# Altium integrated library Analog Devices Data Converters Digital-to-Analog Converters.IntLib: 2231 symbols (part 82 of 181)
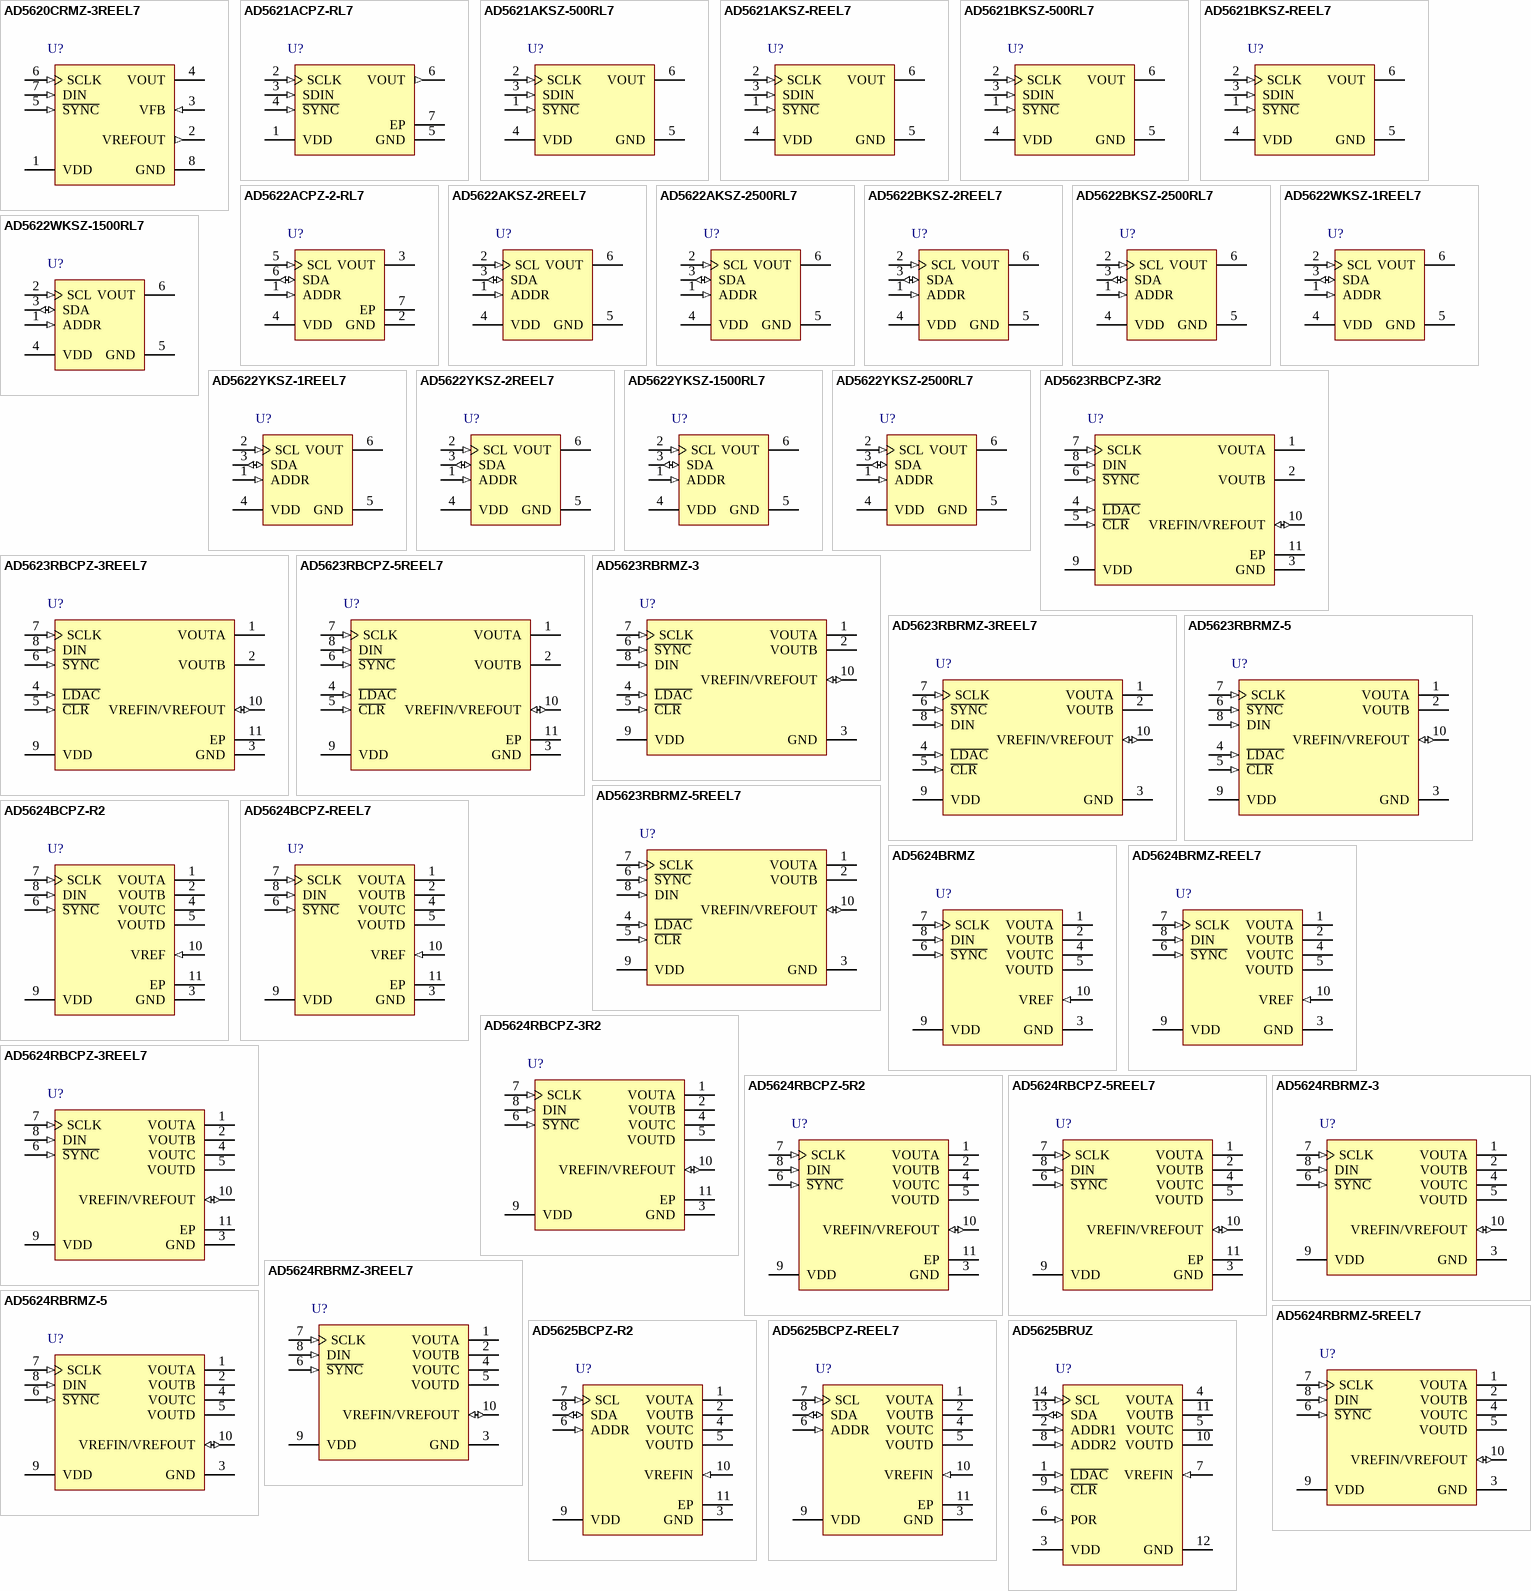
[diagram p195: symbols AD5620CRMZ-3REEL7 to AD5625BRUZ]

## AD5624RBCPZ-3R2
designator U?
Quad 12-Bit nanoDAC with 5 ppm/degC On-Chip Reference, -40 to +105 degC, CP-10-9, Pb-Free, Reel; Generic Part Number: AD5624R; Manufacturer: Analog Devices; PartNumber: AD5624RBCPZ-3R2; # DAC Outputs: 4; Max V+: 5.5V; Op Pwr Diss: 6.6mW; Resolution (Bits): 12; Settling Time: 3µs; Single Supply: Yes; DatasheetVersion: Rev.B; PackageVersion: 02-27-2012-B; PackageReference: CP-10-9; PackageDescription: 10-Lead Lead Frame Chip Scale Package [LFCSP_WD] 3 x 3 mm Body, Very Very Thin, Dual Lead; Supplier 1: Digi-Key; Supplier Part Number 1: AD5624RBCPZ-3R2-ND; Supplier 2: Newark; Supplier Part Number 2: 28M4003; Supplier 3: Mouser; Supplier Part Number 3: 584-AD5624RBCPZ-3R2; Packing: Reel; RoHS: Y; Mounting Technology: Surface Mount; ComponentLink1Description: Manufacturer URL; ComponentLink1URL: http://www.analog.com/en/index.html; ComponentLink2Description: Datasheet; ComponentLink2URL: http://www.analog.com/static/imported-files/data_sheets/AD5624R_5644R_5664R.pdf; ComponentLink3Description: Package Specification; ComponentLink3URL: http://www.analog.com/static/imported-files/packages/CP_10_9.pdf; ComponentLink4Description: Product URL; ComponentLink4URL: http://www.analog.com/en/digital-to-analog-converters/da-converters/ad5624r/products/product.html
footprint CP-10-9_N (SON, 10-Leads, Body 3x3mm, Pitch 0.5mm, Thermal Pad 2.35x1.6mm, IPC Medium Density)
footprint CP-10-9_L (SON, 10-Leads, Body 3x3mm, Pitch 0.5mm, Thermal Pad 2.35x1.6mm, IPC High Density)
footprint CP-10-9_M (SON, 10-Leads, Body 3x3mm, Pitch 0.5mm, Thermal Pad 2.35x1.6mm, IPC Low Density)
pins: 1 VOUTA (hiz) "Analog Output Voltage from DAC A. The output amplifier has rail-to-rail operation.", 2 VOUTB (hiz) "Analog Output Voltage from DAC B. The output amplifier has rail-to-rail operation.", 3 GND (power) "Ground Reference Point for all Circuitry on the Part.", 4 VOUTC (hiz) "Analog Output Voltage from DAC C. The output amplifier has rail-to-rail operation.", 5 VOUTD (hiz) "Analog Output Voltage from DAC D. The output amplifier has rail-to-rail operation.", 6 ~{SYNC} (in) "Active Low Control Input. This is the frame synchronization signal for the input data. When S\Y\N\C\ goes low, it powers on the SCLK and DIN buffers and enables the input shift register. Data is transferred in on the falling (See Datasheet)", 7 SCLK (in) "Serial Clock Input. Data is clocked into the input shift register on the falling edge of the serial clock input. Data can be transferred at rates up to 50 MHz.", 8 DIN (in) "Serial Data Input. This device has a 24-bit shift register. Data is clocked into the register on the falling edge of the serial clock input.", 9 VDD (power) "Power Supply Input. These parts can be operated from 2.7 V to 5.5 V, and the supply should be decoupled with a 10 µF capacitor in parallel with a 0.1 uF capacitor to GND.", 10 VREFIN/VREFOUT (io) "The AD5624R have a common pin for reference input and reference output. When using the internal reference, this is the reference output pin. When using an external reference, this is the reference input pin. The default for (See Datasheet)", 11 EP (power) "Exposed  pad"

## AD5624RBCPZ-3REEL7
designator U?
Quad 12-Bit nanoDAC with 5 ppm/degC On-Chip Reference, -40 to +105 degC, CP-10-9, Pb-Free, Reel; Generic Part Number: AD5624R; Manufacturer: Analog Devices; PartNumber: AD5624RBCPZ-3REEL7; # DAC Outputs: 4; Max V+: 5.5V; Op Pwr Diss: 6.6mW; Resolution (Bits): 12; Settling Time: 3µs; Single Supply: Yes; DatasheetVersion: Rev.B; PackageVersion: 02-27-2012-B; PackageReference: CP-10-9; PackageDescription: 10-Lead Lead Frame Chip Scale Package [LFCSP_WD] 3 x 3 mm Body, Very Very Thin, Dual Lead; Supplier 1: Digi-Key; Supplier Part Number 1: AD5624RBCPZ-3REEL7TR-ND; Supplier 2: Digi-Key; Supplier Part Number 2: AD5624RBCPZ-3REEL7CT-ND; Supplier 3: Digi-Key; Supplier Part Number 3: AD5624RBCPZ-3REEL7DKR-ND; Supplier 4: Newark; Supplier Part Number 4: 12M8587; Supplier 5: Mouser; Supplier Part Number 5: 584-AD5624RBCPZ3R7; Packing: Reel; RoHS: Y; Mounting Technology: Surface Mount; ComponentLink1Description: Manufacturer URL; ComponentLink1URL: http://www.analog.com/en/index.html; ComponentLink2Description: Datasheet; ComponentLink2URL: http://www.analog.com/static/imported-files/data_sheets/AD5624R_5644R_5664R.pdf; ComponentLink3Description: Package Specification; ComponentLink3URL: http://www.analog.com/static/imported-files/packages/CP_10_9.pdf; ComponentLink4Description: Product URL; ComponentLink4URL: http://www.analog.com/en/digital-to-analog-converters/da-converters/ad5624r/products/product.html
footprint CP-10-9_N (SON, 10-Leads, Body 3x3mm, Pitch 0.5mm, Thermal Pad 2.35x1.6mm, IPC Medium Density)
footprint CP-10-9_L (SON, 10-Leads, Body 3x3mm, Pitch 0.5mm, Thermal Pad 2.35x1.6mm, IPC High Density)
footprint CP-10-9_M (SON, 10-Leads, Body 3x3mm, Pitch 0.5mm, Thermal Pad 2.35x1.6mm, IPC Low Density)
pins: 1 VOUTA (hiz) "Analog Output Voltage from DAC A. The output amplifier has rail-to-rail operation.", 2 VOUTB (hiz) "Analog Output Voltage from DAC B. The output amplifier has rail-to-rail operation.", 3 GND (power) "Ground Reference Point for all Circuitry on the Part.", 4 VOUTC (hiz) "Analog Output Voltage from DAC C. The output amplifier has rail-to-rail operation.", 5 VOUTD (hiz) "Analog Output Voltage from DAC D. The output amplifier has rail-to-rail operation.", 6 ~{SYNC} (in) "Active Low Control Input. This is the frame synchronization signal for the input data. When S\Y\N\C\ goes low, it powers on the SCLK and DIN buffers and enables the input shift register. Data is transferred in on the falling (See Datasheet)", 7 SCLK (in) "Serial Clock Input. Data is clocked into the input shift register on the falling edge of the serial clock input. Data can be transferred at rates up to 50 MHz.", 8 DIN (in) "Serial Data Input. This device has a 24-bit shift register. Data is clocked into the register on the falling edge of the serial clock input.", 9 VDD (power) "Power Supply Input. These parts can be operated from 2.7 V to 5.5 V, and the supply should be decoupled with a 10 µF capacitor in parallel with a 0.1 uF capacitor to GND.", 10 VREFIN/VREFOUT (io) "The AD5624R have a common pin for reference input and reference output. When using the internal reference, this is the reference output pin. When using an external reference, this is the reference input pin. The default for (See Datasheet)", 11 EP (power) "Exposed  pad"

## AD5624RBCPZ-5R2
designator U?
Quad 12-Bit nanoDAC with 5 ppm/degC On-Chip Reference, -40 to +105 degC, CP-10-9, Pb-Free, Reel; Generic Part Number: AD5624R; Manufacturer: Analog Devices; PartNumber: AD5624RBCPZ-5R2; # DAC Outputs: 4; Max V+: 5.5V; Op Pwr Diss: 6.6mW; Resolution (Bits): 12; Settling Time: 3µs; Single Supply: Yes; DatasheetVersion: Rev.B; PackageVersion: 02-27-2012-B; PackageReference: CP-10-9; PackageDescription: 10-Lead Lead Frame Chip Scale Package [LFCSP_WD] 3 x 3 mm Body, Very Very Thin, Dual Lead; Supplier 1: Digi-Key; Supplier Part Number 1: AD5624RBCPZ-5R2TR-ND; Supplier 2: Digi-Key; Supplier Part Number 2: AD5624RBCPZ-5R2CT-ND; Supplier 3: Digi-Key; Supplier Part Number 3: AD5624RBCPZ-5R2DKR-ND; Supplier 4: Newark; Supplier Part Number 4: 51R0728; Supplier 5: Mouser; Supplier Part Number 5: 584-AD5624RBCPZ-5R2; Packing: Reel; RoHS: Y; Mounting Technology: Surface Mount; ComponentLink1Description: Manufacturer URL; ComponentLink1URL: http://www.analog.com/en/index.html; ComponentLink2Description: Datasheet; ComponentLink2URL: http://www.analog.com/static/imported-files/data_sheets/AD5624R_5644R_5664R.pdf; ComponentLink3Description: Package Specification; ComponentLink3URL: http://www.analog.com/static/imported-files/packages/CP_10_9.pdf; ComponentLink4Description: Product URL; ComponentLink4URL: http://www.analog.com/en/digital-to-analog-converters/da-converters/ad5624r/products/product.html
footprint CP-10-9_N (SON, 10-Leads, Body 3x3mm, Pitch 0.5mm, Thermal Pad 2.35x1.6mm, IPC Medium Density)
footprint CP-10-9_L (SON, 10-Leads, Body 3x3mm, Pitch 0.5mm, Thermal Pad 2.35x1.6mm, IPC High Density)
footprint CP-10-9_M (SON, 10-Leads, Body 3x3mm, Pitch 0.5mm, Thermal Pad 2.35x1.6mm, IPC Low Density)
pins: 1 VOUTA (hiz) "Analog Output Voltage from DAC A. The output amplifier has rail-to-rail operation.", 2 VOUTB (hiz) "Analog Output Voltage from DAC B. The output amplifier has rail-to-rail operation.", 3 GND (power) "Ground Reference Point for all Circuitry on the Part.", 4 VOUTC (hiz) "Analog Output Voltage from DAC C. The output amplifier has rail-to-rail operation.", 5 VOUTD (hiz) "Analog Output Voltage from DAC D. The output amplifier has rail-to-rail operation.", 6 ~{SYNC} (in) "Active Low Control Input. This is the frame synchronization signal for the input data. When S\Y\N\C\ goes low, it powers on the SCLK and DIN buffers and enables the input shift register. Data is transferred in on the falling (See Datasheet)", 7 SCLK (in) "Serial Clock Input. Data is clocked into the input shift register on the falling edge of the serial clock input. Data can be transferred at rates up to 50 MHz.", 8 DIN (in) "Serial Data Input. This device has a 24-bit shift register. Data is clocked into the register on the falling edge of the serial clock input.", 9 VDD (power) "Power Supply Input. These parts can be operated from 2.7 V to 5.5 V, and the supply should be decoupled with a 10 µF capacitor in parallel with a 0.1 uF capacitor to GND.", 10 VREFIN/VREFOUT (io) "The AD5624R have a common pin for reference input and reference output. When using the internal reference, this is the reference output pin. When using an external reference, this is the reference input pin. The default for (See Datasheet)", 11 EP (power) "Exposed  pad"

## AD5624RBCPZ-5REEL7
designator U?
Quad 12-Bit nanoDAC with 5 ppm/degC On-Chip Reference, -40 to +105 degC, CP-10-9, Pb-Free, Reel; Generic Part Number: AD5624R; Manufacturer: Analog Devices; PartNumber: AD5624RBCPZ-5REEL7; # DAC Outputs: 4; Max V+: 5.5V; Op Pwr Diss: 6.6mW; Resolution (Bits): 12; Settling Time: 3µs; Single Supply: Yes; DatasheetVersion: Rev.B; PackageVersion: 02-27-2012-B; PackageReference: CP-10-9; PackageDescription: 10-Lead Lead Frame Chip Scale Package [LFCSP_WD] 3 x 3 mm Body, Very Very Thin, Dual Lead; Supplier 1: Digi-Key; Supplier Part Number 1: AD5624RBCPZ-5REEL7TR-ND; Supplier 2: Digi-Key; Supplier Part Number 2: AD5624RBCPZ-5REEL7CT-ND; Supplier 3: Digi-Key; Supplier Part Number 3: AD5624RBCPZ-5REEL7DKR-ND; Supplier 4: Newark; Supplier Part Number 4: 89M5007; Supplier 5: Mouser; Supplier Part Number 5: 584-AD5624RBCPZ5R7; Packing: Reel; RoHS: Y; Mounting Technology: Surface Mount; ComponentLink1Description: Manufacturer URL; ComponentLink1URL: http://www.analog.com/en/index.html; ComponentLink2Description: Datasheet; ComponentLink2URL: http://www.analog.com/static/imported-files/data_sheets/AD5624R_5644R_5664R.pdf; ComponentLink3Description: Package Specification; ComponentLink3URL: http://www.analog.com/static/imported-files/packages/CP_10_9.pdf; ComponentLink4Description: Product URL; ComponentLink4URL: http://www.analog.com/en/digital-to-analog-converters/da-converters/ad5624r/products/product.html
footprint CP-10-9_N (SON, 10-Leads, Body 3x3mm, Pitch 0.5mm, Thermal Pad 2.35x1.6mm, IPC Medium Density)
footprint CP-10-9_L (SON, 10-Leads, Body 3x3mm, Pitch 0.5mm, Thermal Pad 2.35x1.6mm, IPC High Density)
footprint CP-10-9_M (SON, 10-Leads, Body 3x3mm, Pitch 0.5mm, Thermal Pad 2.35x1.6mm, IPC Low Density)
pins: 1 VOUTA (hiz) "Analog Output Voltage from DAC A. The output amplifier has rail-to-rail operation.", 2 VOUTB (hiz) "Analog Output Voltage from DAC B. The output amplifier has rail-to-rail operation.", 3 GND (power) "Ground Reference Point for all Circuitry on the Part.", 4 VOUTC (hiz) "Analog Output Voltage from DAC C. The output amplifier has rail-to-rail operation.", 5 VOUTD (hiz) "Analog Output Voltage from DAC D. The output amplifier has rail-to-rail operation.", 6 ~{SYNC} (in) "Active Low Control Input. This is the frame synchronization signal for the input data. When S\Y\N\C\ goes low, it powers on the SCLK and DIN buffers and enables the input shift register. Data is transferred in on the falling (See Datasheet)", 7 SCLK (in) "Serial Clock Input. Data is clocked into the input shift register on the falling edge of the serial clock input. Data can be transferred at rates up to 50 MHz.", 8 DIN (in) "Serial Data Input. This device has a 24-bit shift register. Data is clocked into the register on the falling edge of the serial clock input.", 9 VDD (power) "Power Supply Input. These parts can be operated from 2.7 V to 5.5 V, and the supply should be decoupled with a 10 µF capacitor in parallel with a 0.1 uF capacitor to GND.", 10 VREFIN/VREFOUT (io) "The AD5624R have a common pin for reference input and reference output. When using the internal reference, this is the reference output pin. When using an external reference, this is the reference input pin. The default for (See Datasheet)", 11 EP (power) "Exposed  pad"

## AD5624RBRMZ-3
designator U?
Quad 12-Bit nanoDAC with 5 ppm/degC On-Chip Reference, -40 to +105 degC, RM-10, Pb-Free, Tube; Generic Part Number: AD5624R; Manufacturer: Analog Devices; PartNumber: AD5624RBRMZ-3; # DAC Outputs: 4; Max V+: 5.5V; Op Pwr Diss: 6.6mW; Resolution (Bits): 12; Settling Time: 3µs; Single Supply: Yes; DatasheetVersion: Rev.B; PackageVersion: May-2005; PackageReference: RM-10; PackageDescription: 10-Lead Mini Small Outline Package [MSOP]; Supplier 1: Digi-Key; Supplier Part Number 1: AD5624RBRMZ-3-ND; Supplier 2: Farnell; Supplier Part Number 2: 1274270; Supplier 3: Newark; Supplier Part Number 3: 19M0825; Supplier 4: Mouser; Supplier Part Number 4: 584-AD5624RBRMZ-3; Packing: Tube; RoHS: Y; Mounting Technology: Surface Mount; ComponentLink1Description: Manufacturer URL; ComponentLink1URL: http://www.analog.com/en/index.html; ComponentLink2Description: Datasheet; ComponentLink2URL: http://www.analog.com/static/imported-files/data_sheets/AD5624R_5644R_5664R.pdf; ComponentLink3Description: Package Specification; ComponentLink3URL: http://www.analog.com/static/imported-files/packages/PKG_PDF/MSOP%28RM%29/RM_10.pdf; ComponentLink4Description: Product URL; ComponentLink4URL: http://www.analog.com/en/digital-to-analog-converters/da-converters/ad5624r/products/product.html
footprint RM-10_N (TSSOP, 10-Leads, Body 3x3mm, Pitch 0.5mm, IPC Medium Density)
footprint RM-10_L (TSSOP, 10-Leads, Body 3x3mm, Pitch 0.5mm, IPC High Density)
footprint RM-10_M (TSSOP, 10-Leads, Body 3x3mm, Pitch 0.5mm, IPC Low Density)
pins: 1 VOUTA (hiz) "Analog Output Voltage from DAC A. The output amplifier has rail-to-rail operation.", 2 VOUTB (hiz) "Analog Output Voltage from DAC B. The output amplifier has rail-to-rail operation.", 3 GND (power) "Ground Reference Point for all Circuitry on the Part.", 4 VOUTC (hiz) "Analog Output Voltage from DAC C. The output amplifier has rail-to-rail operation.", 5 VOUTD (hiz) "Analog Output Voltage from DAC D. The output amplifier has rail-to-rail operation.", 6 ~{SYNC} (in) "Active Low Control Input. This is the frame synchronization signal for the input data. When S\Y\N\C\ goes low, it powers on the SCLK and DIN buffers and enables the input shift register. Data is transferred in on the falling (See Datasheet)", 7 SCLK (in) "Serial Clock Input. Data is clocked into the input shift register on the falling edge of the serial clock input. Data can be transferred at rates up to 50 MHz.", 8 DIN (in) "Serial Data Input. This device has a 24-bit shift register. Data is clocked into the register on the falling edge of the serial clock input.", 9 VDD (power) "Power Supply Input. These parts can be operated from 2.7 V to 5.5 V, and the supply should be decoupled with a 10 uF capacitor in parallel with a 0.1 uF capacitor to GND.", 10 VREFIN/VREFOUT (io) "The AD5624R have a common pin for reference input and reference output. When using the internal reference, this is the reference output pin. When using an external reference, this is the reference input pin. The default for (See Datasheet)"

## AD5624RBRMZ-3REEL7
designator U?
Quad 12-Bit nanoDAC with 5 ppm/degC On-Chip Reference, -40 to +105 degC, RM-10, Pb-Free, Reel; Generic Part Number: AD5624R; Manufacturer: Analog Devices; PartNumber: AD5624RBRMZ-3REEL7; # DAC Outputs: 4; Max V+: 5.5V; Op Pwr Diss: 6.6mW; Resolution (Bits): 12; Settling Time: 3µs; Single Supply: Yes; DatasheetVersion: Rev.B; PackageVersion: May-2005; PackageReference: RM-10; PackageDescription: 10-Lead Mini Small Outline Package [MSOP]; Supplier 1: Digi-Key; Supplier Part Number 1: AD5624RBRMZ-3REEL7-ND; Supplier 2: Newark; Supplier Part Number 2: 12M8589; Supplier 3: Mouser; Supplier Part Number 3: 584-AD5624RBRMZ3R7; Packing: Reel; RoHS: Y; Mounting Technology: Surface Mount; ComponentLink1Description: Manufacturer URL; ComponentLink1URL: http://www.analog.com/en/index.html; ComponentLink2Description: Datasheet; ComponentLink2URL: http://www.analog.com/static/imported-files/data_sheets/AD5624R_5644R_5664R.pdf; ComponentLink3Description: Package Specification; ComponentLink3URL: http://www.analog.com/static/imported-files/packages/PKG_PDF/MSOP%28RM%29/RM_10.pdf; ComponentLink4Description: Product URL; ComponentLink4URL: http://www.analog.com/en/digital-to-analog-converters/da-converters/ad5624r/products/product.html
footprint RM-10_N (TSSOP, 10-Leads, Body 3x3mm, Pitch 0.5mm, IPC Medium Density)
footprint RM-10_L (TSSOP, 10-Leads, Body 3x3mm, Pitch 0.5mm, IPC High Density)
footprint RM-10_M (TSSOP, 10-Leads, Body 3x3mm, Pitch 0.5mm, IPC Low Density)
pins: 1 VOUTA (hiz) "Analog Output Voltage from DAC A. The output amplifier has rail-to-rail operation.", 2 VOUTB (hiz) "Analog Output Voltage from DAC B. The output amplifier has rail-to-rail operation.", 3 GND (power) "Ground Reference Point for all Circuitry on the Part.", 4 VOUTC (hiz) "Analog Output Voltage from DAC C. The output amplifier has rail-to-rail operation.", 5 VOUTD (hiz) "Analog Output Voltage from DAC D. The output amplifier has rail-to-rail operation.", 6 ~{SYNC} (in) "Active Low Control Input. This is the frame synchronization signal for the input data. When S\Y\N\C\ goes low, it powers on the SCLK and DIN buffers and enables the input shift register. Data is transferred in on the falling (See Datasheet)", 7 SCLK (in) "Serial Clock Input. Data is clocked into the input shift register on the falling edge of the serial clock input. Data can be transferred at rates up to 50 MHz.", 8 DIN (in) "Serial Data Input. This device has a 24-bit shift register. Data is clocked into the register on the falling edge of the serial clock input.", 9 VDD (power) "Power Supply Input. These parts can be operated from 2.7 V to 5.5 V, and the supply should be decoupled with a 10 uF capacitor in parallel with a 0.1 uF capacitor to GND.", 10 VREFIN/VREFOUT (io) "The AD5624R have a common pin for reference input and reference output. When using the internal reference, this is the reference output pin. When using an external reference, this is the reference input pin. The default for (See Datasheet)"

## AD5624RBRMZ-5
designator U?
Quad 12-Bit nanoDAC with 5 ppm/degC On-Chip Reference, -40 to +105 degC, RM-10, Pb-Free, Tube; Generic Part Number: AD5624R; Manufacturer: Analog Devices; PartNumber: AD5624RBRMZ-5; # DAC Outputs: 4; Max V+: 5.5V; Op Pwr Diss: 6.6mW; Resolution (Bits): 12; Settling Time: 3µs; Single Supply: Yes; DatasheetVersion: Rev.B; PackageVersion: May-2005; PackageReference: RM-10; PackageDescription: 10-Lead Mini Small Outline Package [MSOP]; Supplier 1: Digi-Key; Supplier Part Number 1: AD5624RBRMZ-5-ND; Supplier 2: Farnell; Supplier Part Number 2: 1274269; Supplier 3: Newark; Supplier Part Number 3: 31M4136; Supplier 4: Newark; Supplier Part Number 4: 19M0826; Supplier 5: Mouser; Supplier Part Number 5: 584-AD5624RBRMZ-5; Packing: Tube; RoHS: Y; Mounting Technology: Surface Mount; ComponentLink1Description: Manufacturer URL; ComponentLink1URL: http://www.analog.com/en/index.html; ComponentLink2Description: Datasheet; ComponentLink2URL: http://www.analog.com/static/imported-files/data_sheets/AD5624R_5644R_5664R.pdf; ComponentLink3Description: Package Specification; ComponentLink3URL: http://www.analog.com/static/imported-files/packages/PKG_PDF/MSOP%28RM%29/RM_10.pdf; ComponentLink4Description: Product URL; ComponentLink4URL: http://www.analog.com/en/digital-to-analog-converters/da-converters/ad5624r/products/product.html
footprint RM-10_N (TSSOP, 10-Leads, Body 3x3mm, Pitch 0.5mm, IPC Medium Density)
footprint RM-10_L (TSSOP, 10-Leads, Body 3x3mm, Pitch 0.5mm, IPC High Density)
footprint RM-10_M (TSSOP, 10-Leads, Body 3x3mm, Pitch 0.5mm, IPC Low Density)
pins: 1 VOUTA (hiz) "Analog Output Voltage from DAC A. The output amplifier has rail-to-rail operation.", 2 VOUTB (hiz) "Analog Output Voltage from DAC B. The output amplifier has rail-to-rail operation.", 3 GND (power) "Ground Reference Point for all Circuitry on the Part.", 4 VOUTC (hiz) "Analog Output Voltage from DAC C. The output amplifier has rail-to-rail operation.", 5 VOUTD (hiz) "Analog Output Voltage from DAC D. The output amplifier has rail-to-rail operation.", 6 ~{SYNC} (in) "Active Low Control Input. This is the frame synchronization signal for the input data. When S\Y\N\C\ goes low, it powers on the SCLK and DIN buffers and enables the input shift register. Data is transferred in on the falling (See Datasheet)", 7 SCLK (in) "Serial Clock Input. Data is clocked into the input shift register on the falling edge of the serial clock input. Data can be transferred at rates up to 50 MHz.", 8 DIN (in) "Serial Data Input. This device has a 24-bit shift register. Data is clocked into the register on the falling edge of the serial clock input.", 9 VDD (power) "Power Supply Input. These parts can be operated from 2.7 V to 5.5 V, and the supply should be decoupled with a 10 uF capacitor in parallel with a 0.1 uF capacitor to GND.", 10 VREFIN/VREFOUT (io) "The AD5624R have a common pin for reference input and reference output. When using the internal reference, this is the reference output pin. When using an external reference, this is the reference input pin. The default for (See Datasheet)"

## AD5624RBRMZ-5REEL7
designator U?
Quad 12-Bit nanoDAC with 5 ppm/degC On-Chip Reference, -40 to +105 degC, RM-10, Pb-Free, Reel; Generic Part Number: AD5624R; Manufacturer: Analog Devices; PartNumber: AD5624RBRMZ-5REEL7; # DAC Outputs: 4; Max V+: 5.5V; Op Pwr Diss: 6.6mW; Resolution (Bits): 12; Settling Time: 3µs; Single Supply: Yes; DatasheetVersion: Rev.B; PackageVersion: May-2005; PackageReference: RM-10; PackageDescription: 10-Lead Mini Small Outline Package [MSOP]; Supplier 1: Digi-Key; Supplier Part Number 1: AD5624RBRMZ-5REEL7-ND; Supplier 2: Mouser; Supplier Part Number 2: 584-AD5624RBRMZ5R7; Packing: Reel; RoHS: Y; Mounting Technology: Surface Mount; ComponentLink1Description: Manufacturer URL; ComponentLink1URL: http://www.analog.com/en/index.html; ComponentLink2Description: Datasheet; ComponentLink2URL: http://www.analog.com/static/imported-files/data_sheets/AD5624R_5644R_5664R.pdf; ComponentLink3Description: Package Specification; ComponentLink3URL: http://www.analog.com/static/imported-files/packages/PKG_PDF/MSOP%28RM%29/RM_10.pdf; ComponentLink4Description: Product URL; ComponentLink4URL: http://www.analog.com/en/digital-to-analog-converters/da-converters/ad5624r/products/product.html
footprint RM-10_N (TSSOP, 10-Leads, Body 3x3mm, Pitch 0.5mm, IPC Medium Density)
footprint RM-10_L (TSSOP, 10-Leads, Body 3x3mm, Pitch 0.5mm, IPC High Density)
footprint RM-10_M (TSSOP, 10-Leads, Body 3x3mm, Pitch 0.5mm, IPC Low Density)
pins: 1 VOUTA (hiz) "Analog Output Voltage from DAC A. The output amplifier has rail-to-rail operation.", 2 VOUTB (hiz) "Analog Output Voltage from DAC B. The output amplifier has rail-to-rail operation.", 3 GND (power) "Ground Reference Point for all Circuitry on the Part.", 4 VOUTC (hiz) "Analog Output Voltage from DAC C. The output amplifier has rail-to-rail operation.", 5 VOUTD (hiz) "Analog Output Voltage from DAC D. The output amplifier has rail-to-rail operation.", 6 ~{SYNC} (in) "Active Low Control Input. This is the frame synchronization signal for the input data. When S\Y\N\C\ goes low, it powers on the SCLK and DIN buffers and enables the input shift register. Data is transferred in on the falling (See Datasheet)", 7 SCLK (in) "Serial Clock Input. Data is clocked into the input shift register on the falling edge of the serial clock input. Data can be transferred at rates up to 50 MHz.", 8 DIN (in) "Serial Data Input. This device has a 24-bit shift register. Data is clocked into the register on the falling edge of the serial clock input.", 9 VDD (power) "Power Supply Input. These parts can be operated from 2.7 V to 5.5 V, and the supply should be decoupled with a 10 uF capacitor in parallel with a 0.1 uF capacitor to GND.", 10 VREFIN/VREFOUT (io) "The AD5624R have a common pin for reference input and reference output. When using the internal reference, this is the reference output pin. When using an external reference, this is the reference input pin. The default for (See Datasheet)"

## AD5625BCPZ-R2
designator U?
Quad 12-Bit nanoDAC with I2C Interface and 5 ppm/degC On-Chip Reference, -40 to +105 degC, CP-10-9, Pb-Free, Reel; Generic Part Number: AD5625; Manufacturer: Analog Devices; PartNumber: AD5625BCPZ-R2; # DAC Outputs: 4; Max V+: 5.5V; Resolution (Bits): 12; Settling Time: 3µs; Single Supply: Yes; DatasheetVersion: Rev.B; PackageVersion: 02-27-2012-B; PackageReference: CP-10-9; PackageDescription: 10-Lead Lead Frame Chip Scale Package [LFCSP_WD] 3 x 3 mm Body, Very Very Thin, Dual Lead; Supplier 1: Digi-Key; Supplier Part Number 1: AD5625BCPZ-R2-ND; Supplier 2: Newark; Supplier Part Number 2: 34M4993; Supplier 3: Mouser; Supplier Part Number 3: 584-AD5625BCPZ-R2; Packing: Reel; RoHS: Y; Mounting Technology: Surface Mount; ComponentLink1Description: Manufacturer URL; ComponentLink1URL: http://www.analog.com/en/index.html; ComponentLink2Description: Datasheet; ComponentLink2URL: http://www.analog.com/static/imported-files/data_sheets/AD5625R_5645R_5665R_5625_5665.pdf; ComponentLink3Description: Package Specification; ComponentLink3URL: http://www.analog.com/static/imported-files/packages/CP_10_9.pdf; ComponentLink4Description: Product URL; ComponentLink4URL: http://www.analog.com/en/digital-to-analog-converters/da-converters/ad5625/products/product.html
footprint CP-10-9_N (SON, 10-Leads, Body 3x3mm, Pitch 0.5mm, Thermal Pad 2.35x1.6mm, IPC Medium Density)
footprint CP-10-9_L (SON, 10-Leads, Body 3x3mm, Pitch 0.5mm, Thermal Pad 2.35x1.6mm, IPC High Density)
footprint CP-10-9_M (SON, 10-Leads, Body 3x3mm, Pitch 0.5mm, Thermal Pad 2.35x1.6mm, IPC Low Density)
pins: 1 VOUTA (hiz) "Analog Output Voltage from DAC A. The output amplifier has rail-to-rail operation.", 2 VOUTB (hiz) "Analog Output Voltage from DAC B. The output amplifier has rail-to-rail operation.", 3 GND (power) "Ground Reference Point for All Circuitry on the Part.", 4 VOUTC (hiz) "Analog Output Voltage from DAC C. The output amplifier has rail-to-rail operation.", 5 VOUTD (hiz) "Analog Output Voltage from DAC D. The output amplifier has rail-to-rail operation.", 6 ADDR (in) "Three-State Address Input. Sets the two least significant bits (Bit A1, Bit A0) of the 7-bit slave address (see Table 8).", 7 SCL (in) "Serial Clock Line. This is used in conjunction with the SDA line to clock data into or out of the 16-bit input register.", 8 SDA (io) "Serial Data Line. This is used in conjunction with the SCL line to clock data into or out of the 16-bit input register. It is a bidirectional, open-drain data line that should be pulled to the supply with an external pull-up (See Datasheet)", 9 VDD (power) "Power Supply Input. These parts can be operated from 2.7 V to 5.5 V, and the supply should be decoupled with a 10 uF capacitor in parallel with a 0.1 uF capacitor to GND.", 10 VREFIN (in) "The AD56x5R have a common pin for reference input and reference output. When using the internal reference, this is the reference output pin. When using an external reference, this is the reference input pin. The default for (See Datasheet)", 11 EP (power) "The exposed pad must be tied to GND."

## AD5625BCPZ-REEL7
designator U?
Quad 12-Bit nanoDAC with I2C Interface and 5 ppm/degC On-Chip Reference, -40 to +105 degC, CP-10-9, Pb-Free, Reel; Generic Part Number: AD5625; Manufacturer: Analog Devices; PartNumber: AD5625BCPZ-REEL7; # DAC Outputs: 4; Max V+: 5.5V; Resolution (Bits): 12; Settling Time: 3µs; Single Supply: Yes; DatasheetVersion: Rev.B; PackageVersion: 02-27-2012-B; PackageReference: CP-10-9; PackageDescription: 10-Lead Lead Frame Chip Scale Package [LFCSP_WD] 3 x 3 mm Body, Very Very Thin, Dual Lead; Supplier 1: Digi-Key; Supplier Part Number 1: AD5625BCPZ-REEL7TR-ND; Supplier 2: Digi-Key; Supplier Part Number 2: AD5625BCPZ-REEL7CT-ND; Supplier 3: Digi-Key; Supplier Part Number 3: AD5625BCPZ-REEL7DKR-ND; Supplier 4: Newark; Supplier Part Number 4: 34M4992; Supplier 5: Mouser; Supplier Part Number 5: 584-AD5625BCPZ-R7; Packing: Reel; RoHS: Y; Mounting Technology: Surface Mount; ComponentLink1Description: Manufacturer URL; ComponentLink1URL: http://www.analog.com/en/index.html; ComponentLink2Description: Datasheet; ComponentLink2URL: http://www.analog.com/static/imported-files/data_sheets/AD5625R_5645R_5665R_5625_5665.pdf; ComponentLink3Description: Package Specification; ComponentLink3URL: http://www.analog.com/static/imported-files/packages/CP_10_9.pdf; ComponentLink4Description: Product URL; ComponentLink4URL: http://www.analog.com/en/digital-to-analog-converters/da-converters/ad5625/products/product.html
footprint CP-10-9_N (SON, 10-Leads, Body 3x3mm, Pitch 0.5mm, Thermal Pad 2.35x1.6mm, IPC Medium Density)
footprint CP-10-9_L (SON, 10-Leads, Body 3x3mm, Pitch 0.5mm, Thermal Pad 2.35x1.6mm, IPC High Density)
footprint CP-10-9_M (SON, 10-Leads, Body 3x3mm, Pitch 0.5mm, Thermal Pad 2.35x1.6mm, IPC Low Density)
pins: 1 VOUTA (hiz) "Analog Output Voltage from DAC A. The output amplifier has rail-to-rail operation.", 2 VOUTB (hiz) "Analog Output Voltage from DAC B. The output amplifier has rail-to-rail operation.", 3 GND (power) "Ground Reference Point for All Circuitry on the Part.", 4 VOUTC (hiz) "Analog Output Voltage from DAC C. The output amplifier has rail-to-rail operation.", 5 VOUTD (hiz) "Analog Output Voltage from DAC D. The output amplifier has rail-to-rail operation.", 6 ADDR (in) "Three-State Address Input. Sets the two least significant bits (Bit A1, Bit A0) of the 7-bit slave address (see Table 8).", 7 SCL (in) "Serial Clock Line. This is used in conjunction with the SDA line to clock data into or out of the 16-bit input register.", 8 SDA (io) "Serial Data Line. This is used in conjunction with the SCL line to clock data into or out of the 16-bit input register. It is a bidirectional, open-drain data line that should be pulled to the supply with an external pull-up (See Datasheet)", 9 VDD (power) "Power Supply Input. These parts can be operated from 2.7 V to 5.5 V, and the supply should be decoupled with a 10 uF capacitor in parallel with a 0.1 uF capacitor to GND.", 10 VREFIN (in) "The AD56x5R have a common pin for reference input and reference output. When using the internal reference, this is the reference output pin. When using an external reference, this is the reference input pin. The default for (See Datasheet)", 11 EP (power) "The exposed pad must be tied to GND."

## AD5625BRUZ
designator U?
Quad 12-Bit nanoDAC with I2C Interface and 5 ppm/degC On-Chip Reference, -40 to +105 degC, RU-14, Pb-Free, Tube; Generic Part Number: AD5625; Manufacturer: Analog Devices; PartNumber: AD5625BRUZ; # DAC Outputs: 4; Max V+: 5.5V; Resolution (Bits): 12; Settling Time: 3µs; Single Supply: Yes; DatasheetVersion: Rev.B; PackageVersion: Aug-2002; PackageReference: RU-14; PackageDescription: 14-Lead Thin Shrink Small Outline Package [TSSOP]; Supplier 1: Digi-Key; Supplier Part Number 1: AD5625BRUZ-ND; Supplier 2: Farnell; Supplier Part Number 2: 1438915; Supplier 3: Newark; Supplier Part Number 3: 34M4994; Supplier 4: Mouser; Supplier Part Number 4: 584-AD5625BRUZ; Packing: Tube; RoHS: Y; Mounting Technology: Surface Mount; Code_JEDEC: MO-153-AB-1; ComponentLink1Description: Manufacturer URL; ComponentLink1URL: http://www.analog.com/en/index.html; ComponentLink2Description: Datasheet; ComponentLink2URL: http://www.analog.com/static/imported-files/data_sheets/AD5625R_5645R_5665R_5625_5665.pdf; ComponentLink3Description: Package Specification; ComponentLink3URL: http://www.analog.com/static/imported-files/packages/36057385283879153717235186773RU14.pdf; ComponentLink4Description: Product URL; ComponentLink4URL: http://www.analog.com/en/digital-to-analog-converters/da-converters/ad5625/products/product.html
footprint RU-14_N (TSOP, 14-Leads, Body 5x4.4mm, Pitch 0.65mm, IPC Medium Density)
footprint RU-14_L (TSOP, 14-Leads, Body 5x4.4mm, Pitch 0.65mm, IPC High Density)
footprint RU-14_M (TSOP, 14-Leads, Body 5x4.4mm, Pitch 0.65mm, IPC Low Density)
pins: 1 ~{LDAC} (in) "Pulsing this pin low allows any or all DAC registers to be updated if the input registers have new data.This allows simultaneous update of all DAC outputs. Alternatively, this pin can be tied permanently low.", 2 ADDR1 (in) "Three-State Address Input. Sets the two least significant bits (Bit A1, Bit A0) of the 7-bit slave address (see Table 9).", 3 VDD (power) "Power Supply Input. These parts can be operated from 2.7 V to 5.5 V, and the supply should be decoupled with a 10 uF capacitor in parallel with a 0.1 uF capacitor to GND.", 4 VOUTA (hiz) "Analog Output Voltage from DAC A. The output amplifier has rail-to-rail operation.", 5 VOUTC (hiz) "Analog Output Voltage from DAC C. The output amplifier has rail-to-rail operation.", 6 POR (in) "Power-On Reset Pin. Tying the POR pin to GND powers up the part to 0 V. Tying the POR pin to VDD powers up the part to midscale.", 7 VREFIN (in) "The AD56x5R have a common pin for reference input and reference output. When using the internal reference, this is the reference output pin. When using an external reference, this is the reference input pin. The default for (See Datasheet)", 8 ADDR2 (in) "Three-State Address Input. Sets Bit A3 and Bit A2 of the 7-bit slave address (see Table 9).", 9 ~{CLR} (in) "Asynchronous Clear Input. The C\L\R\ input is falling-edge sensitive. While C\L\R\ is low, all LDAC pulses are ignored. When C\L\R\ is activated, zero scale is loaded to all input and DAC registers. This clears the output to (See Datasheet)", 10 VOUTD (hiz) "Analog Output Voltage from DAC D. The output amplifier has rail-to-rail operation.", 11 VOUTB (hiz) "Analog Output Voltage from DAC B. The output amplifier has rail-to-rail operation.", 12 GND (power) "Ground Reference Point for All Circuitry on the Part.", 13 SDA (io) "Serial Data Line. This is used in conjunction with the SCL line to clock data into or out of the 16-bit input register. It is a bidirectional, open-drain data line that should be pulled to the supply with an external pull-up (See Datasheet)", 14 SCL (in) "Serial Clock Line. This is used in conjunction with the SDA line to clock data into or out of the 16-bit input register."

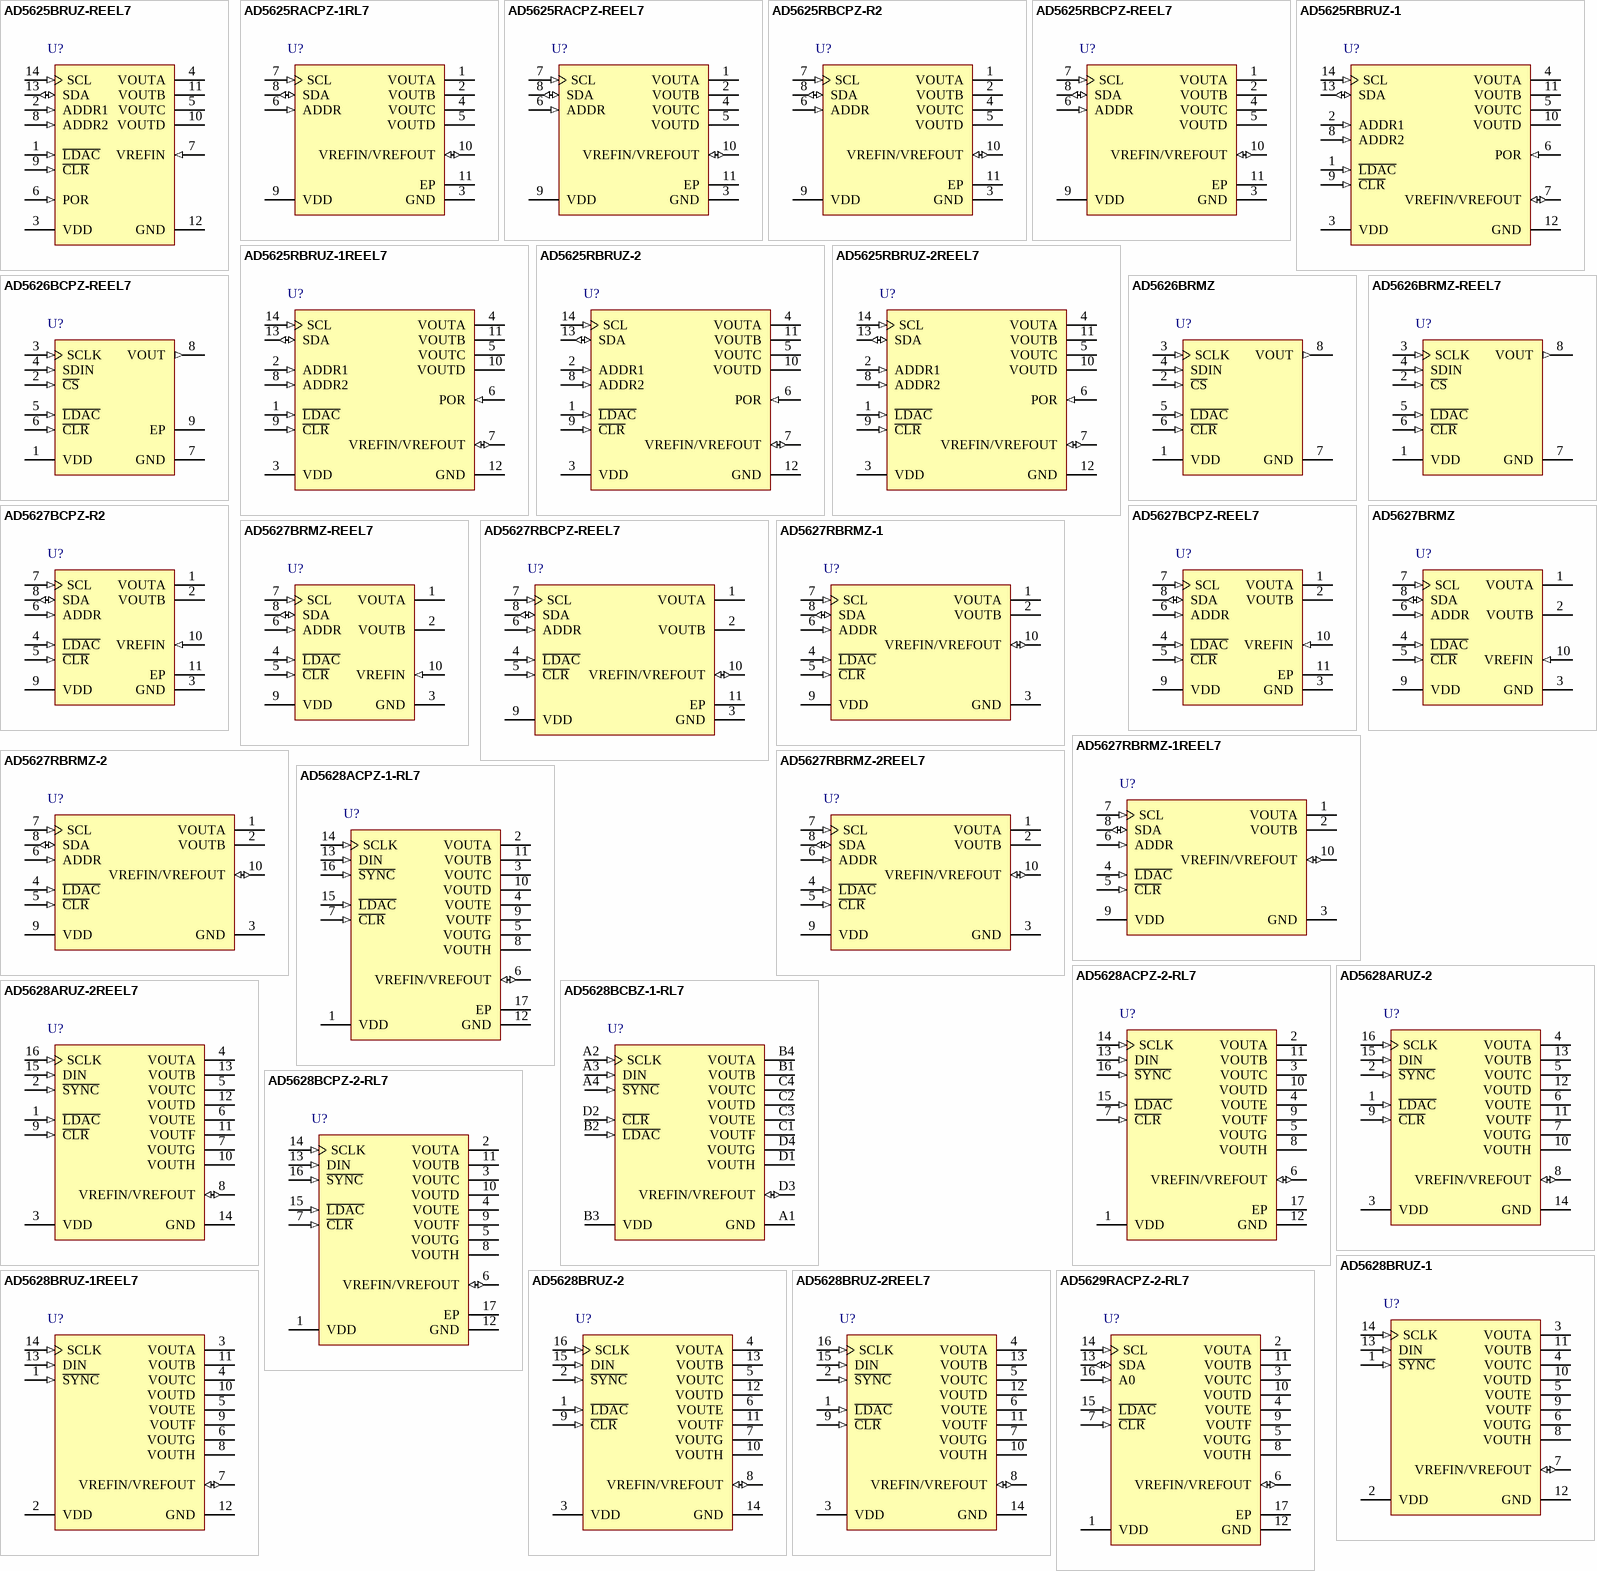
[diagram p45: symbols AD5625BRUZ-REEL7 to AD5629RACPZ-2-RL7]

## AD5625BRUZ-REEL7
designator U?
Quad 12-Bit nanoDAC with I2C Interface and 5 ppm/degC On-Chip Reference, -40 to +105 degC, RU-14, Pb-Free, Reel; Generic Part Number: AD5625; Manufacturer: Analog Devices; PartNumber: AD5625BRUZ-REEL7; # DAC Outputs: 4; Max V+: 5.5V; Resolution (Bits): 12; Settling Time: 3µs; Single Supply: Yes; DatasheetVersion: Rev.B; PackageVersion: Aug-2002; PackageReference: RU-14; PackageDescription: 14-Lead Thin Shrink Small Outline Package [TSSOP]; Supplier 1: Digi-Key; Supplier Part Number 1: AD5625BRUZ-REEL7-ND; Supplier 2: Mouser; Supplier Part Number 2: 584-AD5625BRUZ-R7; Packing: Reel; RoHS: Y; Mounting Technology: Surface Mount; Code_JEDEC: MO-153-AB-1; ComponentLink1Description: Manufacturer URL; ComponentLink1URL: http://www.analog.com/en/index.html; ComponentLink2Description: Datasheet; ComponentLink2URL: http://www.analog.com/static/imported-files/data_sheets/AD5625R_5645R_5665R_5625_5665.pdf; ComponentLink3Description: Package Specification; ComponentLink3URL: http://www.analog.com/static/imported-files/packages/36057385283879153717235186773RU14.pdf; ComponentLink4Description: Product URL; ComponentLink4URL: http://www.analog.com/en/digital-to-analog-converters/da-converters/ad5625/products/product.html
footprint RU-14_N (TSOP, 14-Leads, Body 5x4.4mm, Pitch 0.65mm, IPC Medium Density)
footprint RU-14_L (TSOP, 14-Leads, Body 5x4.4mm, Pitch 0.65mm, IPC High Density)
footprint RU-14_M (TSOP, 14-Leads, Body 5x4.4mm, Pitch 0.65mm, IPC Low Density)
pins: 1 ~{LDAC} (in) "Pulsing this pin low allows any or all DAC registers to be updated if the input registers have new data.This allows simultaneous update of all DAC outputs. Alternatively, this pin can be tied permanently low.", 2 ADDR1 (in) "Three-State Address Input. Sets the two least significant bits (Bit A1, Bit A0) of the 7-bit slave address (see Table 9).", 3 VDD (power) "Power Supply Input. These parts can be operated from 2.7 V to 5.5 V, and the supply should be decoupled with a 10 uF capacitor in parallel with a 0.1 uF capacitor to GND.", 4 VOUTA (hiz) "Analog Output Voltage from DAC A. The output amplifier has rail-to-rail operation.", 5 VOUTC (hiz) "Analog Output Voltage from DAC C. The output amplifier has rail-to-rail operation.", 6 POR (in) "Power-On Reset Pin. Tying the POR pin to GND powers up the part to 0 V. Tying the POR pin to VDD powers up the part to midscale.", 7 VREFIN (in) "The AD56x5R have a common pin for reference input and reference output. When using the internal reference, this is the reference output pin. When using an external reference, this is the reference input pin. The default for (See Datasheet)", 8 ADDR2 (in) "Three-State Address Input. Sets Bit A3 and Bit A2 of the 7-bit slave address (see Table 9).", 9 ~{CLR} (in) "Asynchronous Clear Input. The C\L\R\ input is falling-edge sensitive. While C\L\R\ is low, all LDAC pulses are ignored. When C\L\R\ is activated, zero scale is loaded to all input and DAC registers. This clears the output to (See Datasheet)", 10 VOUTD (hiz) "Analog Output Voltage from DAC D. The output amplifier has rail-to-rail operation.", 11 VOUTB (hiz) "Analog Output Voltage from DAC B. The output amplifier has rail-to-rail operation.", 12 GND (power) "Ground Reference Point for All Circuitry on the Part.", 13 SDA (io) "Serial Data Line. This is used in conjunction with the SCL line to clock data into or out of the 16-bit input register. It is a bidirectional, open-drain data line that should be pulled to the supply with an external pull-up (See Datasheet)", 14 SCL (in) "Serial Clock Line. This is used in conjunction with the SDA line to clock data into or out of the 16-bit input register."

## AD5625RACPZ-1RL7
designator U?
Quad 12-Bit nanoDAC with I2C Interface and 5 ppm/degC On-Chip Reference, -40 to +105 degC, CP-10-9, Pb-Free, Reel; Generic Part Number: AD5625R; Manufacturer: Analog Devices; PartNumber: AD5625RACPZ-1RL7; # DAC Outputs: 4; Max V+: 5.5V; Resolution (Bits): 12; Settling Time: 3µs; Single Supply: Yes; DatasheetVersion: Rev.B; PackageVersion: 02-27-2012-B; PackageReference: CP-10-9; PackageDescription: 10-Lead Lead Frame Chip Scale Package [LFCSP_WD] 3 x 3 mm Body, Very Very Thin, Dual Lead; Supplier 1: Digi-Key; Supplier Part Number 1: AD5625RACPZ-1RL7TR-ND; Supplier 2: Digi-Key; Supplier Part Number 2: AD5625RACPZ-1RL7CT-ND; Supplier 3: Digi-Key; Supplier Part Number 3: AD5625RACPZ-1RL7DKR-ND; Supplier 4: Mouser; Supplier Part Number 4: 584-AD5625RACPZ-1R7; Packing: Reel; RoHS: Y; Mounting Technology: Surface Mount; ComponentLink1Description: Manufacturer URL; ComponentLink1URL: http://www.analog.com/en/index.html; ComponentLink2Description: Datasheet; ComponentLink2URL: http://www.analog.com/static/imported-files/data_sheets/AD5625R_5645R_5665R_5625_5665.pdf; ComponentLink3Description: Package Specification; ComponentLink3URL: http://www.analog.com/static/imported-files/packages/CP_10_9.pdf; ComponentLink4Description: Product URL; ComponentLink4URL: http://www.analog.com/en/digital-to-analog-converters/da-converters/ad5625r/products/product.html
footprint CP-10-9_N (SON, 10-Leads, Body 3x3mm, Pitch 0.5mm, Thermal Pad 2.35x1.6mm, IPC Medium Density)
footprint CP-10-9_L (SON, 10-Leads, Body 3x3mm, Pitch 0.5mm, Thermal Pad 2.35x1.6mm, IPC High Density)
footprint CP-10-9_M (SON, 10-Leads, Body 3x3mm, Pitch 0.5mm, Thermal Pad 2.35x1.6mm, IPC Low Density)
pins: 1 VOUTA (hiz) "Analog Output Voltage from DAC A. The output amplifier has rail-to-rail operation.", 2 VOUTB (hiz) "Analog Output Voltage from DAC B. The output amplifier has rail-to-rail operation.", 3 GND (power) "Ground Reference Point for All Circuitry on the Part.", 4 VOUTC (hiz) "Analog Output Voltage from DAC C. The output amplifier has rail-to-rail operation.", 5 VOUTD (hiz) "Analog Output Voltage from DAC D. The output amplifier has rail-to-rail operation.", 6 ADDR (in) "Three-State Address Input. Sets the two least significant bits (Bit A1, Bit A0) of the 7-bit slave address (see Table 8).", 7 SCL (in) "Serial Clock Line. This is used in conjunction with the SDA line to clock data into or out of the 16-bit input register.", 8 SDA (io) "Serial Data Line. This is used in conjunction with the SCL line to clock data into or out of the 16-bit input register. It is a bidirectional, open-drain data line that should be pulled to the supply with an external pull-up (See Datasheet)", 9 VDD (power) "Power Supply Input. These parts can be operated from 2.7 V to 5.5 V, and the supply should be decoupled with a 10 uF capacitor in parallel with a 0.1 uF capacitor to GND.", 10 VREFIN/VREFOUT (io) "The AD5625R have a common pin for reference input and reference output. When using the internal reference, this is the reference output pin. When using an external reference, this is the reference input pin. The default for (See Datasheet)", 11 EP (power) "The exposed pad must be tied to GND."

## AD5625RACPZ-REEL7
designator U?
Quad 12-Bit nanoDAC with I2C Interface and 5 ppm/degC On-Chip Reference, -40 to +105 degC, CP-10-9, Pb-Free, Reel; Generic Part Number: AD5625R; Manufacturer: Analog Devices; PartNumber: AD5625RACPZ-REEL7; # DAC Outputs: 4; Max V+: 5.5V; Resolution (Bits): 12; Settling Time: 3µs; Single Supply: Yes; DatasheetVersion: Rev.B; PackageVersion: 02-27-2012-B; PackageReference: CP-10-9; PackageDescription: 10-Lead Lead Frame Chip Scale Package [LFCSP_WD] 3 x 3 mm Body, Very Very Thin, Dual Lead; Supplier 1: Digi-Key; Supplier Part Number 1: AD5625RACPZ-REEL7TR-ND; Supplier 2: Digi-Key; Supplier Part Number 2: AD5625RACPZ-REEL7CT-ND; Supplier 3: Digi-Key; Supplier Part Number 3: AD5625RACPZ-REEL7DKR-ND; Supplier 4: Mouser; Supplier Part Number 4: 584-AD5625RACPZ-R7; Packing: Reel; RoHS: Y; Mounting Technology: Surface Mount; ComponentLink1Description: Manufacturer URL; ComponentLink1URL: http://www.analog.com/en/index.html; ComponentLink2Description: Datasheet; ComponentLink2URL: http://www.analog.com/static/imported-files/data_sheets/AD5625R_5645R_5665R_5625_5665.pdf; ComponentLink3Description: Package Specification; ComponentLink3URL: http://www.analog.com/static/imported-files/packages/CP_10_9.pdf; ComponentLink4Description: Product URL; ComponentLink4URL: http://www.analog.com/en/digital-to-analog-converters/da-converters/ad5625r/products/product.html
footprint CP-10-9_N (SON, 10-Leads, Body 3x3mm, Pitch 0.5mm, Thermal Pad 2.35x1.6mm, IPC Medium Density)
footprint CP-10-9_L (SON, 10-Leads, Body 3x3mm, Pitch 0.5mm, Thermal Pad 2.35x1.6mm, IPC High Density)
footprint CP-10-9_M (SON, 10-Leads, Body 3x3mm, Pitch 0.5mm, Thermal Pad 2.35x1.6mm, IPC Low Density)
pins: 1 VOUTA (hiz) "Analog Output Voltage from DAC A. The output amplifier has rail-to-rail operation.", 2 VOUTB (hiz) "Analog Output Voltage from DAC B. The output amplifier has rail-to-rail operation.", 3 GND (power) "Ground Reference Point for All Circuitry on the Part.", 4 VOUTC (hiz) "Analog Output Voltage from DAC C. The output amplifier has rail-to-rail operation.", 5 VOUTD (hiz) "Analog Output Voltage from DAC D. The output amplifier has rail-to-rail operation.", 6 ADDR (in) "Three-State Address Input. Sets the two least significant bits (Bit A1, Bit A0) of the 7-bit slave address (see Table 8).", 7 SCL (in) "Serial Clock Line. This is used in conjunction with the SDA line to clock data into or out of the 16-bit input register.", 8 SDA (io) "Serial Data Line. This is used in conjunction with the SCL line to clock data into or out of the 16-bit input register. It is a bidirectional, open-drain data line that should be pulled to the supply with an external pull-up (See Datasheet)", 9 VDD (power) "Power Supply Input. These parts can be operated from 2.7 V to 5.5 V, and the supply should be decoupled with a 10 uF capacitor in parallel with a 0.1 uF capacitor to GND.", 10 VREFIN/VREFOUT (io) "The AD5625R have a common pin for reference input and reference output. When using the internal reference, this is the reference output pin. When using an external reference, this is the reference input pin. The default for (See Datasheet)", 11 EP (power) "The exposed pad must be tied to GND."

## AD5625RBCPZ-R2
designator U?
Quad 12-Bit nanoDAC with I2C Interface and 5 ppm/degC On-Chip Reference, -40 to +105 degC, CP-10-9, Pb-Free, Reel; Generic Part Number: AD5625R; Manufacturer: Analog Devices; PartNumber: AD5625RBCPZ-R2; # DAC Outputs: 4; Max V+: 5.5V; Resolution (Bits): 12; Settling Time: 3µs; Single Supply: Yes; DatasheetVersion: Rev.B; PackageVersion: 02-27-2012-B; PackageReference: CP-10-9; PackageDescription: 10-Lead Lead Frame Chip Scale Package [LFCSP_WD] 3 x 3 mm Body, Very Very Thin, Dual Lead; Supplier 1: Digi-Key; Supplier Part Number 1: AD5625RBCPZ-R2TR-ND; Supplier 2: Digi-Key; Supplier Part Number 2: AD5625RBCPZ-R2CT-ND; Supplier 3: Digi-Key; Supplier Part Number 3: AD5625RBCPZ-R2DKR-ND; Supplier 4: Newark; Supplier Part Number 4: 34M4996; Supplier 5: Mouser; Supplier Part Number 5: 584-AD5625RBCPZ-R2; Packing: Reel; RoHS: Y; Mounting Technology: Surface Mount; ComponentLink1Description: Manufacturer URL; ComponentLink1URL: http://www.analog.com/en/index.html; ComponentLink2Description: Datasheet; ComponentLink2URL: http://www.analog.com/static/imported-files/data_sheets/AD5625R_5645R_5665R_5625_5665.pdf; ComponentLink3Description: Package Specification; ComponentLink3URL: http://www.analog.com/static/imported-files/packages/CP_10_9.pdf; ComponentLink4Description: Product URL; ComponentLink4URL: http://www.analog.com/en/digital-to-analog-converters/da-converters/ad5625r/products/product.html
footprint CP-10-9_N (SON, 10-Leads, Body 3x3mm, Pitch 0.5mm, Thermal Pad 2.35x1.6mm, IPC Medium Density)
footprint CP-10-9_L (SON, 10-Leads, Body 3x3mm, Pitch 0.5mm, Thermal Pad 2.35x1.6mm, IPC High Density)
footprint CP-10-9_M (SON, 10-Leads, Body 3x3mm, Pitch 0.5mm, Thermal Pad 2.35x1.6mm, IPC Low Density)
pins: 1 VOUTA (hiz) "Analog Output Voltage from DAC A. The output amplifier has rail-to-rail operation.", 2 VOUTB (hiz) "Analog Output Voltage from DAC B. The output amplifier has rail-to-rail operation.", 3 GND (power) "Ground Reference Point for All Circuitry on the Part.", 4 VOUTC (hiz) "Analog Output Voltage from DAC C. The output amplifier has rail-to-rail operation.", 5 VOUTD (hiz) "Analog Output Voltage from DAC D. The output amplifier has rail-to-rail operation.", 6 ADDR (in) "Three-State Address Input. Sets the two least significant bits (Bit A1, Bit A0) of the 7-bit slave address (see Table 8).", 7 SCL (in) "Serial Clock Line. This is used in conjunction with the SDA line to clock data into or out of the 16-bit input register.", 8 SDA (io) "Serial Data Line. This is used in conjunction with the SCL line to clock data into or out of the 16-bit input register. It is a bidirectional, open-drain data line that should be pulled to the supply with an external pull-up (See Datasheet)", 9 VDD (power) "Power Supply Input. These parts can be operated from 2.7 V to 5.5 V, and the supply should be decoupled with a 10 uF capacitor in parallel with a 0.1 uF capacitor to GND.", 10 VREFIN/VREFOUT (io) "The AD5625R have a common pin for reference input and reference output. When using the internal reference, this is the reference output pin. When using an external reference, this is the reference input pin. The default for (See Datasheet)", 11 EP (power) "The exposed pad must be tied to GND."